# Altium footprint library Footprints.PcbLib: 1 footprints
Each footprint in its own frame and in the unit in brackets; x right, y up, seen from the top. Pads: shape width x height; smd on the part's side, far side on the other; paste and mask are expansions set on the pad; w line width, h text height; cw(c..) or ccw(c..) is an arc to the next point about the centre after c.
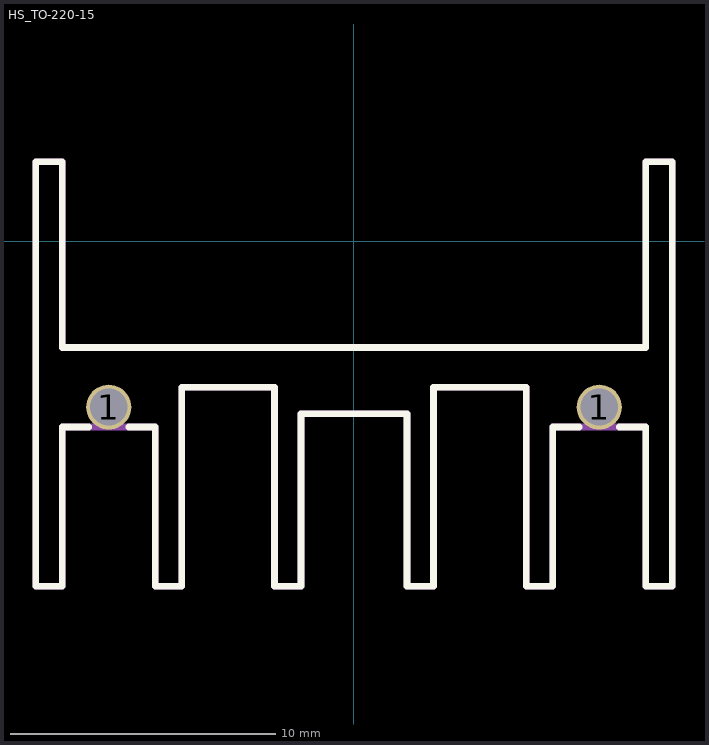
[diagram p0: the footprint, top view; thin cyan lines are the x and y axes]

## HS_TO-220-15 [mm] "TO-220-15 (Multiwatt-15) heatsink"
pads (2):
  round 1.7 hole 1.4: 1(-9.25,-6.25) 1(9.25,-6.25)
Top Overlay:
  lines w0.254: -10,-7 -11,-7 -11,-13 -12,-13 -12,3 -11,3 -11,-4 11,-4 11,3 12,3 12,-13 11,-13 11,-7 10,-7 ; -8.5,-7 -7.5,-7 -7.5,-13 -6.5,-13 -6.5,-5.5 -3,-5.5 -3,-13 -2,-13 -2,-6.5 2,-6.5 2,-13 3,-13 3,-5.5 6.5,-5.5 6.5,-13 7.5,-13 7.5,-7 8.5,-7
Mechanical 13:
  lines w0.254: -12,-13 -11,-13 -11,-7 -7.5,-7 -7.5,-13 -6.5,-13 -6.5,-5.5 -3,-5.5 -3,-13 -2,-13 -2,-6.5 2,-6.5 2,-13 3,-13 3,-5.5 6.5,-5.5 6.5,-13 7.5,-13 7.5,-7 11,-7 11,-13 12,-13 ; -12,-13 -12,-13 ; -12,-13 -12,3 -11,3 ; -11,3 -11,3 ; -11,3 -11,-4 11,-4 11,3 ; 11,3 11,3 ; 11,3 12,3 ; 12,-13 12,3 ; 12,-13 12,-13 ; 12,3 12,3
3D body "TO-220-15 (Multiwatt 15) solid.sldprt": height 25, standoff -4, extent -12,-13 12,3